# EAGLE library part FTSH-105-01-L-DV-K (library FTSH-105-01-L-DV-K)
Samtec, FTSH, 10 Way, 2 Row, Straight Pin Header Source: Datasheet <https://www.arrow.com/en/products/ftsh-105-01-l-dv-k/samtec>
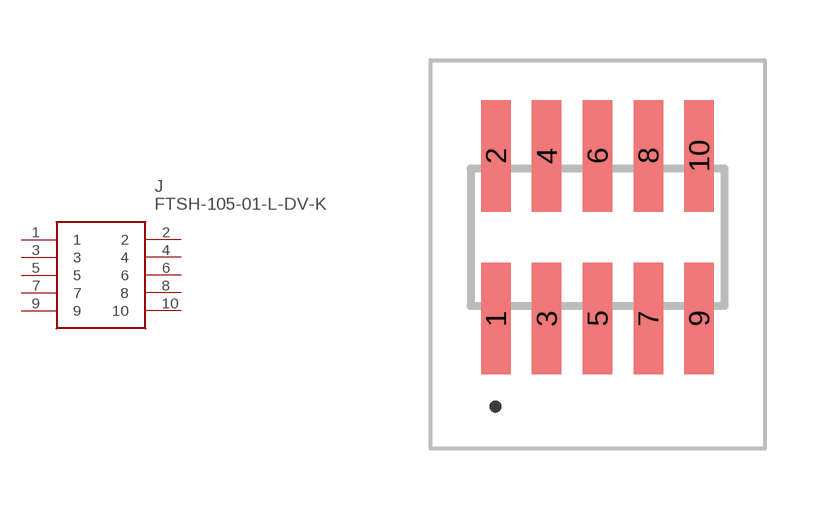
[diagram p0: symbol with the pads of FTSH10501LDVK; footprint FTSH10501LDVK]

Designator prefix J

## FTSH-105-01-L-DV-K (Description: Samtec, FTSH, 10 Way, 2 Row, Straight Pin Header; Height: 6.1mm; Manufacturer_Name: SAMTEC; Manufacturer_Part_Number: FTSH-105-01-L-DV-K)  [FTSH10501LDVK]
1  1
2  2
3  3
4  4
5  5
6  6
7  7
8  8
9  9
10  10

## Footprint FTSH10501LDVK (pad centres in mm)
FTSH-105-01-L-DV-K-2
smd 0.74 x 2.79: 1 -2.54,0; 2 -2.54,4.07; 3 -1.27,0; 4 -1.27,4.07; 5 0,0; 6 0,4.07; 7 1.27,0; 8 1.27,4.07; 9 2.54,0; 10 2.54,4.07